# Altium footprint library Antenna.PcbLib: 1 footprints
Each footprint in its own frame and in the unit in brackets; x right, y up, seen from the top. Pads: shape width x height; smd on the part's side, far side on the other; paste and mask are expansions set on the pad; w line width, h text height; cw(c..) or ccw(c..) is an arc to the next point about the centre after c.
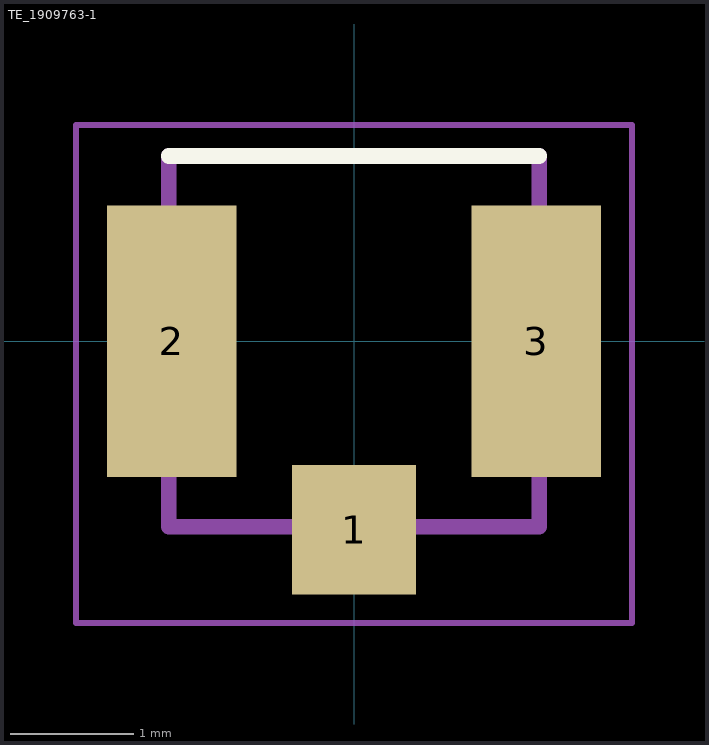
[diagram p0: the footprint, top view; thin cyan lines are the x and y axes]

## TE_1909763-1 [mm]
pads (3):
  rect 1x1.05 smd: 1(0,-1.525)
  rect 1.05x2.2 smd: 2(-1.475,0) 3(1.475,0)
Top Overlay:
  lines w0.127: -1.5,1.5 1.5,1.5
Mechanical 13:
  lines w0.127: -1.5,1.5 -1.5,-1.5 1.5,-1.5 1.5,1.5
Mechanical 15:
  lines w0.05: -2.25,-2.28 2.25,-2.28 2.25,1.75 -2.25,1.75 -2.25,-2.28
3D body "1909763-1--3DModel-STEP-1.STEP": height 1.27, standoff 0.04, extent -1.5,-1.525 1.5,1.575